# Altium footprint library ME2-CO.PcbLib: 1 footprints
Each footprint in its own frame and in the unit in brackets; x right, y up, seen from the top. Pads: shape width x height; smd on the part's side, far side on the other; paste and mask are expansions set on the pad; w line width, h text height; cw(c..) or ccw(c..) is an arc to the next point about the centre after c.
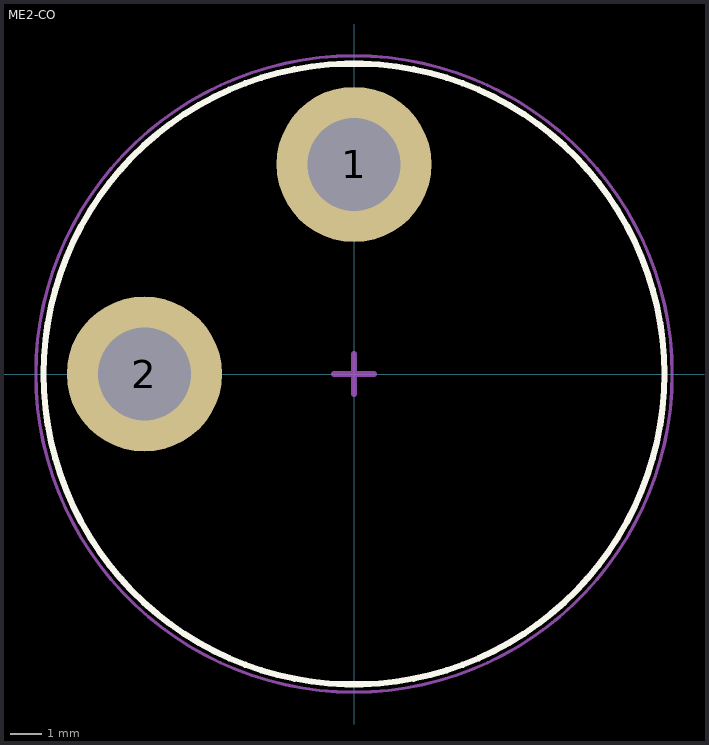
[diagram p0: the footprint, top view; thin cyan lines are the x and y axes]

## ME2-CO [mm]
pads (2):
  round 5 hole 3: 1(0,6.753) 2(-6.753,0)
Top Overlay:
  circle w0.2: c0,0 r10
Mechanical 13:
  circle w0.1: c0,0 r10
Mechanical 15:
  circle w0.1: c0,0 r10.25
  lines w0.2: -0.635,0 0.635,0 ; 0,-0.635 0,0.635
3D body: height 16.5, standoff -4.2, extent -10.327,-10.277 10.073,10.023